# Altium footprint library PcbLib1.PcbLib: 23 footprints (part 2 of 2)
Each footprint in its own frame and in the unit in brackets; x right, y up, seen from the top. Pads: shape width x height; smd on the part's side, far side on the other; paste and mask are expansions set on the pad; w line width, h text height; cw(c..) or ccw(c..) is an arc to the next point about the centre after c.
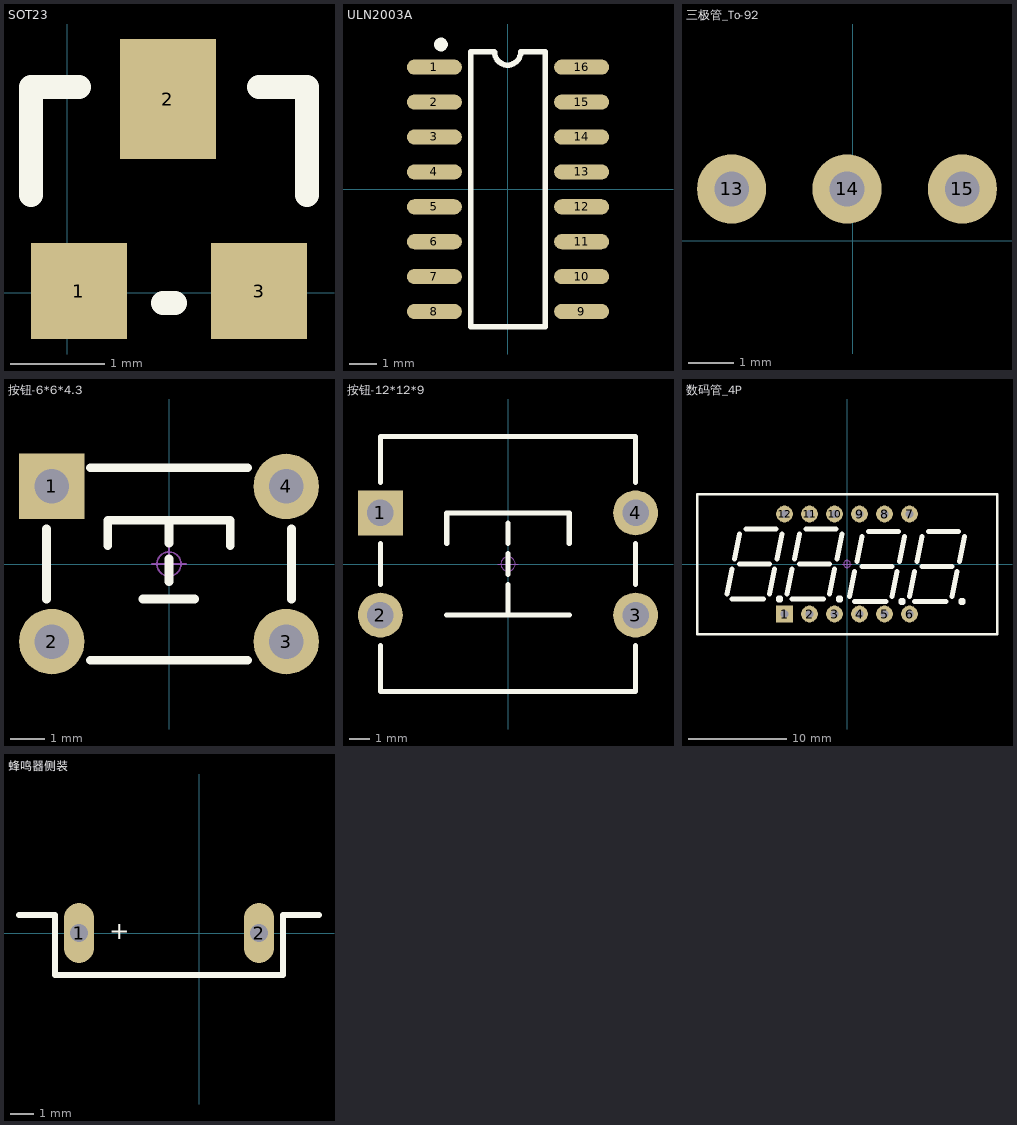
[diagram p1: the footprints below, top view; thin cyan lines are the x and y axes]

## SOT23 [mil] "封装库来自淘宝卖家 ID：黄晶宝石"
pads (3):
  rect 40x40 smd: 1(4.88,0.63) 3(79.88,0.63)
  rect 40x50 smd: 2(41.88,80.63)
Top Overlay:
  lines w10: -15.12,40.63 -15.12,85.63 4.88,85.63 ; 39.88,-4.37 44.88,-4.37 ; 79.88,85.63 99.88,85.63 99.88,40.63
3D body "SOT-23-3.STEP": height 47.24, standoff 0, extent -14.87,-11.02 99.3,99.22

## ULN2003A [mm] "封装库来自淘宝卖家 ID：黄晶宝石"
height 1.75
pads (16):
  oval 2x0.55 smd: 1(-2.667,4.445) 2(-2.667,3.175) 3(-2.667,1.905) 4(-2.667,0.635) 5(-2.667,-0.635) 6(-2.667,-1.905) 7(-2.667,-3.175) 8(-2.667,-4.445) 9(2.692,-4.445) 10(2.692,-3.175) 11(2.692,-1.905) 12(2.692,-0.635) 13(2.692,0.635) 14(2.692,1.905) 15(2.692,3.175) 16(2.692,4.445)
Top Overlay:
  circle w0.25: c-2.425,5.27 r0.125
  lines w0.2: -0.483,5 -1.346,5 -1.346,-5 1.372,-5 1.372,5 0.475,5 ; -0.475,4.997 ccw(c0,4.996) 0.475,4.997
3D body "SO-16.STEP": height 1.45, standoff 0, extent -2.921,-4.991 2.984,4.991

## 三极管_To-92 [mil]
pads (3):
  round 60 hole 30: 13(-105,45) 14(-4.96,45) 15(95.08,45)

## 按钮-6*6*4.3 [mm] "6*6*4.3mm"
pads (4):
  rect 1.9x1.9 hole 1: 1(-3.4,2.25)
  round 1.9 hole 1: 2(-3.4,-2.25) 3(3.4,-2.25) 4(3.4,2.25)
Top Overlay:
  lines w0.254: -3.556,-1.016 -3.556,1.016 ; -2.286,-2.794 2.286,-2.794 ; -2.286,2.794 2.286,2.794 ; -1.778,0.533 -1.778,1.27 1.778,1.27 1.778,0.533 ; -0.762,-1.016 0.737,-1.016 ; 0,-0.508 0,0.152 ; 0,0.61 0,1.27 ; 3.556,-1.016 3.556,1.016
Bottom Overlay:
  lines w0.254: -2.286,-2.286 2.286,-2.286 ; -2.286,2.286 2.286,2.286
Mechanical 15:
  circle w0.05: c0,0 r0.35
  lines w0.05: -0.5,0 0.5,0 ; 0,-0.5 0,0.5
3D body "TSW DIP-6x6x4.3.STEP": height 4.25, standoff -3.45, extent -4.106,-3 4.106,3

## 按钮-12*12*9 [mm] "12*12*9mm"
pads (4):
  rect 2.2x2.2 hole 1.3: 1(-6.25,2.5)
  round 2.2 hole 1.3: 2(-6.25,-2.5) 3(6.25,-2.5) 4(6.25,2.5)
Top Overlay:
  lines w0.254: -6.25,-4 -6.25,-6.25 6.25,-6.25 6.25,-4 ; -6.25,-1 -6.25,1 ; -6.25,4 -6.25,6.25 6.25,6.25 6.25,4 ; -3,-2.5 3,-2.5 ; -3,1 -3,2.5 3,2.5 3,1 ; 0,-2.5 0,-1 ; 0,-0.5 0,0.5 ; 0,1 0,2 ; 6.25,-1 6.25,1
Bottom Overlay:
  lines w0.254: -4.826,-2.54 4.826,-2.54 ; -4.826,2.54 4.826,2.54
Mechanical 15:
  circle w0.05: c0,0 r0.35
  lines w0.05: -0.5,0 0.5,0 ; 0,-0.5 0,0.5
3D body "TSW DIP-12x12x9.STEP": height 9.15, standoff -3.35, extent -6.898,-6 6.898,6

## 数码管_4P [mm] "30*14*7.2mm(长宽厚)"
pads (12):
  rect 1.7x1.7 hole 0.8: 1(-6.35,-5.08)
  round 1.7 hole 0.8: 2(-3.81,-5.08) 3(-1.27,-5.08) 4(1.27,-5.08) 5(3.81,-5.08) 6(6.35,-5.08) 7(6.35,5.08) 8(3.81,5.08) 9(1.27,5.08) 10(-1.27,5.08) 11(-3.81,5.08) 12(-6.35,5.08)
Top Overlay:
  circle w0.381: c-0.762,-3.556 r0.18
  circle w0.381: c-6.858,-3.556 r0.18
  circle w0.381: c11.684,-3.81 r0.18
  circle w0.381: c5.588,-3.81 r0.18
  lines w0.254: -15.24,-7.112 15.24,-7.112 15.24,7.112 -15.24,7.112 -15.24,-7.112
  lines w0.508: -12.192,-3.048 -11.684,-0.508 ; -11.684,-3.556 -8.509,-3.556 ; -11.43,0.508 -10.922,3.048 ; -10.287,3.556 -7.239,3.556 ; -7.874,-3.048 -7.366,-0.508 ; -7.112,0.508 -6.604,3.048 ; -6.096,-3.048 -5.588,-0.508 ; -5.588,-3.556 -2.413,-3.556 ; -5.334,0.508 -4.826,3.048 ; -4.191,3.556 -1.143,3.556 ; -1.778,-3.048 -1.27,-0.508 ; -1.016,0.508 -0.508,3.048 ; 0.254,-3.302 0.762,-0.762 ; 0.762,-3.81 3.937,-3.81 ; 1.016,0.254 1.524,2.794 ; 2.159,3.302 5.207,3.302 ; 4.572,-3.302 5.08,-0.762 ; 5.334,0.254 5.842,2.794 ; 6.35,-3.302 6.858,-0.762 ; 6.858,-3.81 10.033,-3.81 ; 7.112,0.254 7.62,2.794 ; 8.255,3.302 11.303,3.302 ; 10.668,-3.302 11.176,-0.762 ; 11.43,0.254 11.938,2.794 ; -10.922,0 -7.874,0 -10.922,0 ; -4.826,0 -1.778,0 -4.826,0 ; 1.524,-0.254 4.572,-0.254 1.524,-0.254 ; 7.62,-0.254 10.668,-0.254 7.62,-0.254
Mechanical 15:
  circle w0.05: c0,0 r0.35
  lines w0.05: -0.5,0 0.5,0 ; 0,-0.5 0,0.5
3D body "SMG 0.36-4P.STEP": height 7.2, standoff -3.6, extent -15,-7 15,7

## 蜂鸣器侧装 [mil]
height 98.43
pads (2):
  oval 50x100 hole 30: 1(-200,0) 2(100,0)
Top Overlay:
  lines w10: -300,30 -290,30 -240,30 -240,-20 -240,-70 140,-70 140,-20 140,30 200,30
  text "+" at -150,-10 h30